# Altium schematic symbol library OpAmp.SchLib: 9 symbols
Pins are listed as number, name and electrical type; pins without a type are passive.

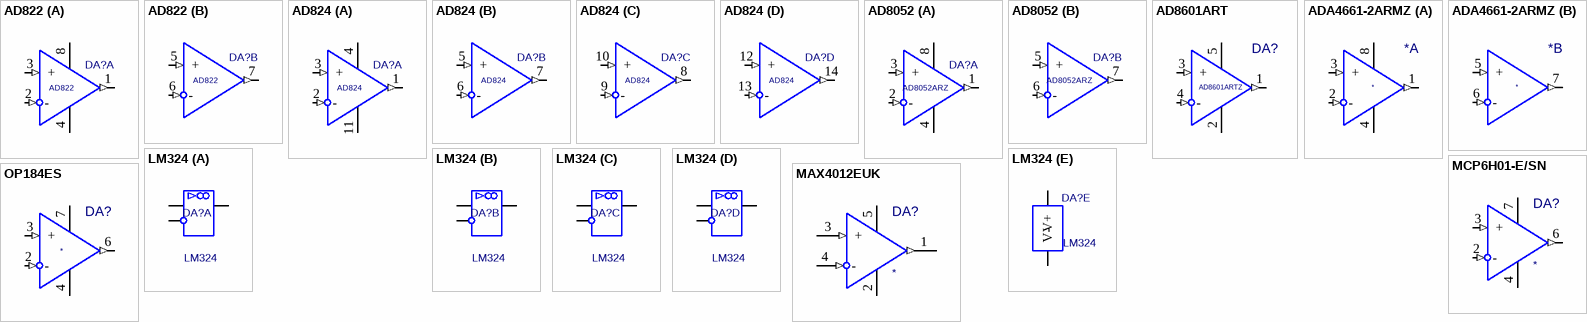
[diagram p0: symbols AD822 to OP184ES]

## AD822
designator DA?
Value: *
footprint SOIC8 JEDEC
footprint MSOP8
part A pins: 1 OUT (out), 2 - (in), 3 + (in), 4 V- (power), 8 V+ (power)
part B pins: 5 + (in), 6 - (in), 7 OUT (out)

## AD824
designator DA?
Value: *
footprint SOIC 14
part A pins: 1 OUT (out), 2 - (in), 3 + (in), 4 V+ (power), 11 V- (power)
part B pins: 5 + (in), 6 - (in), 7 OUT (out)
part C pins: 8 OUT (out), 9 - (in), 10 + (in)
part D pins: 12 + (in), 13 - (in), 14 OUT (out)

## AD8052
designator DA?, comment AD8052ARZ
Value: *
footprint SOIC8 JEDEC
footprint MSOP8
part A pins: 1 OUT (out), 2 - (in), 3 + (in), 4 V- (power), 8 V+ (power)
part B pins: 5 + (in), 6 - (in), 7 OUT (out)

## AD8601ART
designator DA?, comment AD8601ARTZ
footprint SOT23-5
pins: 1 OUT (out), 2 V- (power), 3 + (in), 4 - (in), 5 V+ (power)

## ADA4661-2ARMZ
designator *
footprint MSOP8
part A pins: 1 OUT (out), 2 - (in), 3 + (in), 4 V- (power), 8 V+ (power)
part B pins: 5 + (in), 6 - (in), 7 OUT (out)

## LM324
designator DA?
Value: *
footprint DIP14_Primary
footprint DIP14_prim125
part A pins: 1, 2, 3
part B pins: 5, 6, 7
part C pins: 8, 9, 10
part D pins: 12, 13, 14
part E pins: 4 V+ (power), 11 V- (power)

## MAX4012EUK
designator DA?
200MHz, Single Supply 3.3V/5.0V, Op Amps with Rail-to-Rail Outputs
footprint SOT23-5
pins: 1 OUT (out), 2 V- (power), 3 + (in), 4 - (in), 5 V+ (power)

## MCP6H01-E/SN
designator DA?
1.2 MHz, 16V Op Amps
footprint SOIC8 JEDEC
pins: 2 - (in), 3 + (in), 4 V- (power), 6 OUT (out), 7 V+ (power)

## OP184ES
designator DA?
footprint SOIC8 JEDEC
pins: 2 - (in), 3 + (in), 4 V- (power), 6 OUT (out), 7 V+ (power)